# EAGLE library part E? (library relay-kemet-jlb)
MINIATURE SIGNATURE RELAY KEMET Source: https://content.kemet.com/datasheets/KEM_R7002_EC2_EE2.pdf
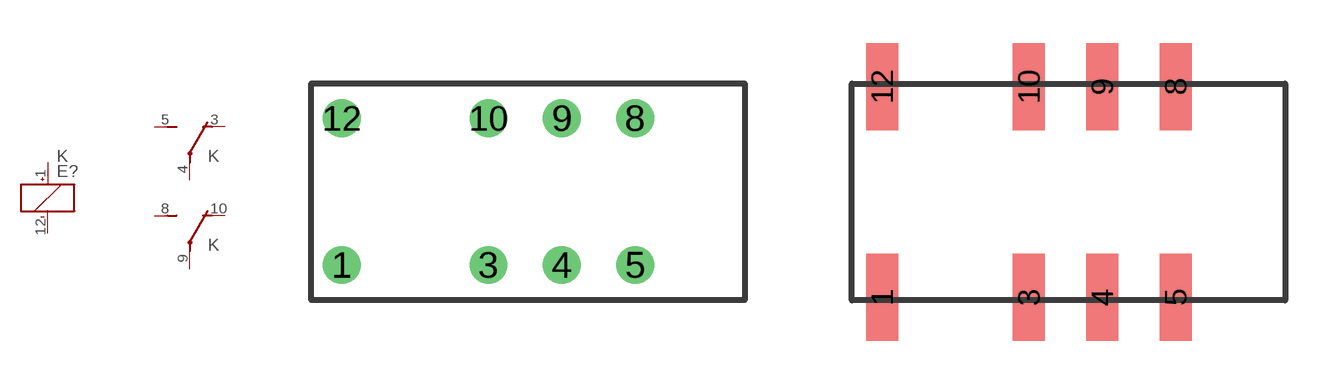
[diagram p0: symbol with the pads of C2; footprints C2, E2]

Designator prefix K; gates R=K+- S=U T=U

## EC2  [C2]
1  R:+  pas
3  S:S  pas
4  S:P  pas
5  S:O  pas
8  T:O  pas
9  T:P  pas
10  T:S  pas
12  R:-  pas

## EE2  [E2]
Pads as for C2

## Footprint C2 (pad centres in mm)
MINIATURE SIGNATURE RELAY KEMET Source: https://content.kemet.com/datasheets/KEM_R7002_EC2_EE2.pdf
drill 0.8: 1 -6.35,-2.54; 3 -1.27,-2.54; 4 1.27,-2.54; 5 3.81,-2.54; 8 3.81,2.54; 9 1.27,2.54; 10 -1.27,2.54; 12 -6.35,2.54

## Footprint E2 (pad centres in mm)
MINIATURE SIGNATURE RELAY KEMET Source: https://content.kemet.com/datasheets/KEM_R7002_EC2_EE2.pdf
smd 1.11 x 3: 1 -6.35,-3.645; 3 -1.27,-3.645; 4 1.27,-3.645; 5 3.81,-3.645; 8 3.81,3.645; 9 1.27,3.645; 10 -1.27,3.645; 12 -6.35,3.645